# Altium footprint library Logic.PcbLib: 8 footprints
Each footprint in its own frame and in the unit in brackets; x right, y up, seen from the top. Pads: shape width x height; smd on the part's side, far side on the other; paste and mask are expansions set on the pad; w line width, h text height; cw(c..) or ccw(c..) is an arc to the next point about the centre after c.
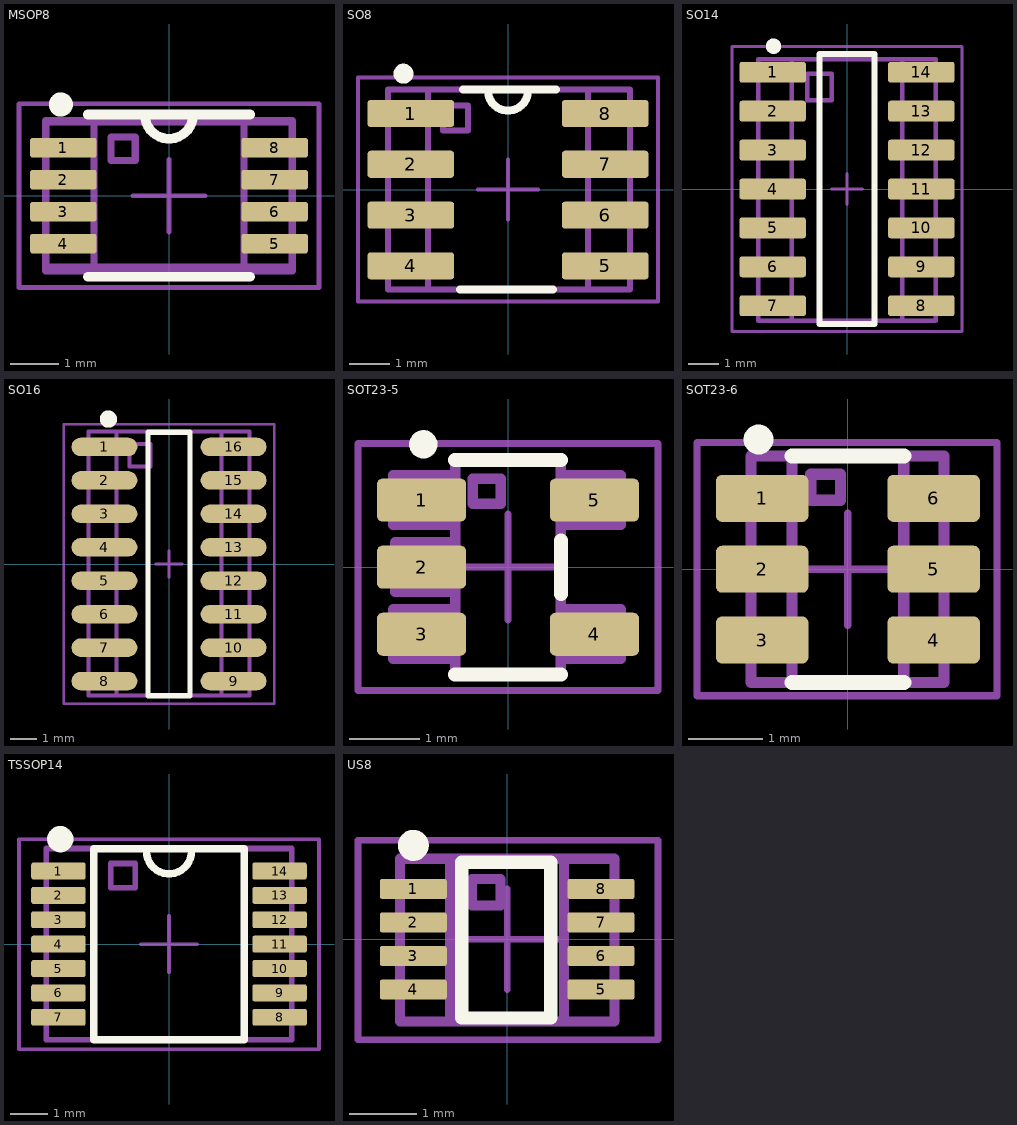
[diagram p0: the footprints below, top view; thin cyan lines are the x and y axes]

## MSOP8 [mil]
pads (8):
  rrect25% 54x16 smd: 1(-86,39) 2(-86,13) 3(-86,-13) 4(-86,-39) 5(86,-39) 6(86,-13) 7(86,13) 8(86,39)
Top Overlay:
  circle w9.84: c-87.95,74.17 r4.92
  lines w7.87: -66,-66 66,-66 ; -66,66 66,66 ; -19.68,66 ccw(c0,66) 19.68,66
Mechanical 9:
  text ".Designator" at -137.8,108.27 h137.8
Mechanical 10:
  text ".Comment" at -98.43,-127.95 h78.74
Mechanical 11:
  lines w5.91: -61,-61 -100.37,-61 -100.37,61 -61,61 ; -61,-61 61,-61 ; -61,-61 -61,61 ; -61,-61 61,-61 ; -61,61 -12,61 ; -61,61 -12,61 ; -12,61 12,61 ; -12,61 12,61 ; 12,61 61,61 ; 12,61 61,61 ; 61,-61 100.37,-61 100.37,61 61,61 ; 61,-61 61,61 ; 61,-61 61,61 ; -100,-58.11 -100,60 100,60 100,-58.11 -100,-58.11 ; -47.24,28.54 -27.56,28.54 -27.56,47.74 -47.24,47.74 -47.24,28.54
Mechanical 15:
  lines w3.94: -29.53,0 29.53,0 ; 0,-29.53 0,29.53 ; -122.05,-74.8 122.05,-74.8 122.05,74.8 -122.05,74.8 -122.05,-74.8
3D body "User Library-uMAX8.STEP": height 37.4, standoff 0, extent -99.38,-58.1 97.5,60.01

## SO8 [mm]
height 1.75
pads (8):
  rrect25% 2.17x0.68 smd: 1(-2.43,1.905) 2(-2.43,0.635) 3(-2.43,-0.635) 4(-2.43,-1.905) 5(2.43,-1.905) 6(2.43,-0.635) 7(2.43,0.635) 8(2.43,1.905)
Top Overlay:
  circle w0.25: c-2.615,2.9 r0.125
  lines w0.2: -1.2,-2.5 1.125,-2.5 ; -1.125,2.5 1.2,2.5 ; -0.5,2.475 ccw(c0,2.475) 0.5,2.475
Mechanical 9:
  text ".Designator" at -4,3.25 h3.5
Mechanical 10:
  text ".Comment" at -2.75,-4 h2
Mechanical 11:
  lines w0.15: -2,-2.5 -2,2.5 ; 2,-2.5 2,2.5 ; -3,-2.5 -3,2.5 3.05,2.5 3.05,-2.5 -3,-2.5 ; -1.625,1.475 -1,1.475 -1,2.1 -1.625,2.1 -1.625,1.475
Mechanical 15:
  lines w0.1: -0.75,0 0.75,0 ; 0,-0.75 0,0.75 ; -3.75,-2.8 3.75,-2.8 3.75,2.8 -3.75,2.8 -3.75,-2.8
3D body "SOIC-8.STEP": height 1.7, standoff 0, extent -3,-2.54 3,2.54

## SO14 [mm] "SOIC, 14-Leads, Body 8,65x3,90mm, Pitch 1,27mm, IPC Medium Density"
height 1.75
pads (14):
  rrect25% 2.17x0.68 smd: 1(-2.425,3.81) 2(-2.425,2.54) 3(-2.425,1.27) 4(-2.425,0) 5(-2.425,-1.27) 6(-2.425,-2.54) 7(-2.425,-3.81) 8(2.425,-3.81) 9(2.425,-2.54) 10(2.425,-1.27) 11(2.425,0) 12(2.425,1.27) 13(2.425,2.54) 14(2.425,3.81)
Top Overlay:
  circle w0.25: c-2.4,4.66 r0.125
  lines w0.2: -0.9,-4.4 -0.9,4.4 0.9,4.4 0.9,-4.4 -0.9,-4.4
Mechanical 9:
  text ".Designator" at -4.8,5.8 h3.5
Mechanical 10:
  text ".Comment" at -2.9,-6.3 h2
Mechanical 11:
  lines w0.15: -1.8,-4.3 -1.8,4.235 ; 1.8,-4.3 1.8,4.235 ; -2.9,-4.3 -2,-4.3 2.9,-4.3 2.9,4.235 -2.9,4.235 -2.9,-4.3 ; -1.3,2.9 -0.5,2.9 -0.5,3.76 -1.3,3.76 -1.3,2.9
Mechanical 15:
  lines w0.1: -0.5,0 0.5,0 ; 0,-0.5 0,0.5 ; -3.75,-4.65 3.75,-4.65 3.75,4.65 -3.75,4.65 -3.75,-4.65
3D body "User Library-SOIC14-150.step": height 1.75, standoff 0, extent -2.9,-4.275 2.9,4.275

## SO16 [mm] "16-Pin Small Outline Integrated Circuit 1.27 mm Pitch, IPC Low Density"
height 1.75
pads (16):
  oval 2.5x0.7 smd: 1(-2.45,4.445) 2(-2.45,3.175) 3(-2.45,1.905) 4(-2.45,0.635) 5(-2.45,-0.635) 6(-2.45,-1.905) 7(-2.45,-3.175) 8(-2.45,-4.445) 9(2.45,-4.445) 10(2.45,-3.175) 11(2.45,-1.905) 12(2.45,-0.635) 13(2.45,0.635) 14(2.45,1.905) 15(2.45,3.175) 16(2.45,4.445)
Top Overlay:
  circle w0.4: c-2.3,5.5 r0.125
  lines w0.2: -0.8,-5 0.8,-5 0.8,5 -0.8,5 -0.8,-5
Mechanical 9:
  text ".Designator" at -4.5,6.6 h3.5
Mechanical 10:
  text ".Comment" at -2.9,-7.1 h2
Mechanical 11:
  lines w0.15: -2,5.035 -2,-5 ; 2,-5 2,5.035 ; -2,-5 3.05,-5 3.05,5.035 -3.05,5.035 -3.05,-5 -2,-5 ; -1.5,3.7 -0.7,3.7 -0.7,4.56 -1.5,4.56 -1.5,3.7
Mechanical 15:
  lines w0.1: -0.5,0 0.5,0 ; 0,-0.5 0,0.5 ; -4,-5.3 4,-5.3 4,5.3 -4,5.3 -4,-5.3
3D body "so16-1 (SOT109-1).STEP": height 1.78, standoff 0.01, extent -3.068,-4.985 3.068,4.985

## SOT23-5 [mm]
height 1.12
pads (5):
  rrect25% 1.26x0.61 smd: 1(-1.225,0.95) 2(-1.225,0) 3(-1.225,-0.95) 4(1.225,-0.95) 5(1.225,0.95)
Top Overlay:
  circle w0.2: c-1.2,1.74 r0.1
  lines w0.2: -0.75,-1.52 0.75,-1.52 ; -0.75,1.52 0.75,1.52 ; 0.75,-0.38 0.75,0.38
Mechanical 9:
  text ".Designator" at -2.125,2 h3.5
Mechanical 10:
  text ".Comment" at -2,-3 h2
Mechanical 11:
  lines w0.15: -0.75,-1.3 -1.625,-1.3 -1.625,-0.6 -0.75,-0.6 ; -0.75,-0.35 -1.6,-0.35 -1.6,0.35 -0.75,0.35 ; -0.75,0.6 -1.625,0.6 -1.625,1.3 -0.75,1.3 ; 0.75,-1.3 1.6,-1.3 1.6,-0.6 0.75,-0.6 ; 0.75,0.6 1.6,0.6 1.6,1.3 0.75,1.3 ; -0.75,-1.52 -0.75,1.52 0.75,1.52 0.75,-1.52 -0.75,-1.52 ; -0.5,0.9 -0.5,1.25 -0.1,1.25 -0.1,0.9 -0.5,0.9
Mechanical 15:
  lines w0.1: -0.75,0 0.75,0 ; 0,-0.75 0,0.75 ; -2.125,-1.75 2.125,-1.75 2.125,1.75 -2,1.75 -2.125,1.75 -2.125,-1.75
3D body "User Library-SOT23-5-3.STEP": height 1.45, standoff 0.01, extent -1.6,-1.555 1.6,1.545

## SOT23-6 [mm]
height 1.12
pads (6):
  rrect25% 1.24x0.63 smd: 1(-1.15,0.95) 2(-1.15,0) 3(-1.15,-0.95) 4(1.15,-0.95) 5(1.15,0) 6(1.15,0.95)
Top Overlay:
  circle w0.2: c-1.2,1.74 r0.1
  lines w0.2: -0.75,-1.52 0.75,-1.52 ; -0.75,1.52 0.75,1.52
Mechanical 9:
  text ".Designator" at -4.275,2.525 h3.5
Mechanical 10:
  text ".Comment" at -3.025,-3.025 h2
Mechanical 11:
  lines w0.15: -0.75,-1.52 -0.75,1.52 ; 0.75,-1.52 0.75,1.52 ; -1.3,-1.52 1.29,-1.52 1.29,1.52 -1.3,1.52 -1.3,-1.52 ; -0.5,0.925 -0.5,1.275 -0.1,1.275 -0.1,0.925 -0.5,0.925
Mechanical 15:
  lines w0.1: -0.75,0 0.75,0 ; 0,-0.75 0,0.75 ; -2.025,-1.7 2,-1.7 2,1.7 -2.025,1.7 -2.025,-1.7
3D body "SW3dPS-SOT-23-6.STEP": height 1.09, standoff 0, extent -1.201,-1.397 1.225,1.397

## TSSOP14 [mm]
height 1.1
pads (14):
  rrect25% 1.45x0.45 smd: 1(-2.95,1.95) 2(-2.95,1.3) 3(-2.95,0.65) 4(-2.95,0) 5(-2.95,-0.65) 6(-2.95,-1.3) 7(-2.95,-1.95) 8(2.95,-1.95) 9(2.95,-1.3) 10(2.95,-0.65) 11(2.95,0) 12(2.95,0.65) 13(2.95,1.3) 14(2.95,1.95)
Top Overlay:
  circle w0.4: c-2.9,2.8 r0.15
  lines w0.2: -0.6,2.475 ccw(c0,2.475) 0.6,2.475 ; -2,-2.55 2,-2.55 2,2.55 -2,2.55 -2,-2.55
Mechanical 9:
  text ".Designator" at -4.6,3.3 h3.5
Mechanical 10:
  text ".Comment" at -2.7,-4.1 h2
Mechanical 11:
  lines w0.15: -2,-2.55 -2,2.55 ; 2,-2.55 2,2.45 ; -3.275,-2.55 -3.275,2.55 3.275,2.55 3.275,-2.55 -3.275,-2.55 ; -1.55,1.5 -0.9,1.5 -0.9,2.15 -1.55,2.15 -1.55,1.5
Mechanical 15:
  lines w0.1: -0.75,0 0.75,0 ; 0,-0.75 0,0.75 ; -4,-2.8 -4,2.8 4,2.8 4,-2.8 -4,-2.8
3D body "User Library-TSSOP-14.STEP": height 1.2, standoff 0, extent -3.2,-2.5 3.2,2.5

## US8 [mm]
height 1.75
pads (8):
  rrect25% 1x0.3 smd: 1(-1.4,0.75) 2(-1.4,0.25) 3(-1.4,-0.25) 4(-1.4,-0.75) 5(1.4,-0.75) 6(1.4,-0.25) 7(1.4,0.25) 8(1.4,0.75)
Top Overlay:
  circle w0.25: c-1.4,1.4 r0.106
  lines w0.2: -0.675,-1.175 0.65,-1.175 0.65,1.15 -0.675,1.15 -0.675,-1.175
Mechanical 9:
  text ".Designator" at -4.5,2.5 h3.5
Mechanical 10:
  text ".Comment" at -2.7,-3.3 h2
Mechanical 11:
  lines w0.15: -0.85,-1.225 -0.85,1.2 ; 0.85,-1.2 0.85,1.2 ; -1.6,-1.225 1.6,-1.225 1.6,1.2 -1.6,1.2 -1.6,-1.225 ; -0.525,0.5 -0.525,0.9 -0.1,0.9 -0.1,0.5 -0.525,0.5
Mechanical 15:
  lines w0.1: -0.75,0 0.75,0 ; 0,-0.75 0,0.75 ; -2.225,-1.5 -2.225,1.475 2.25,1.475 2.25,-1.5 -2.225,-1.5
3D body "User Library-US8 Package_(8US8_8SM8_8DSBGA)_2_4x2_1x0_9.step": height 0.9, standoff 0, extent -1.6,-1.2 1.6,1.2